# Altium footprint library TMPS 03.PcbLib: 1 footprints
Each footprint in its own frame and in the unit in brackets; x right, y up, seen from the top. Pads: shape width x height; smd on the part's side, far side on the other; paste and mask are expansions set on the pad; w line width, h text height; cw(c..) or ccw(c..) is an arc to the next point about the centre after c.
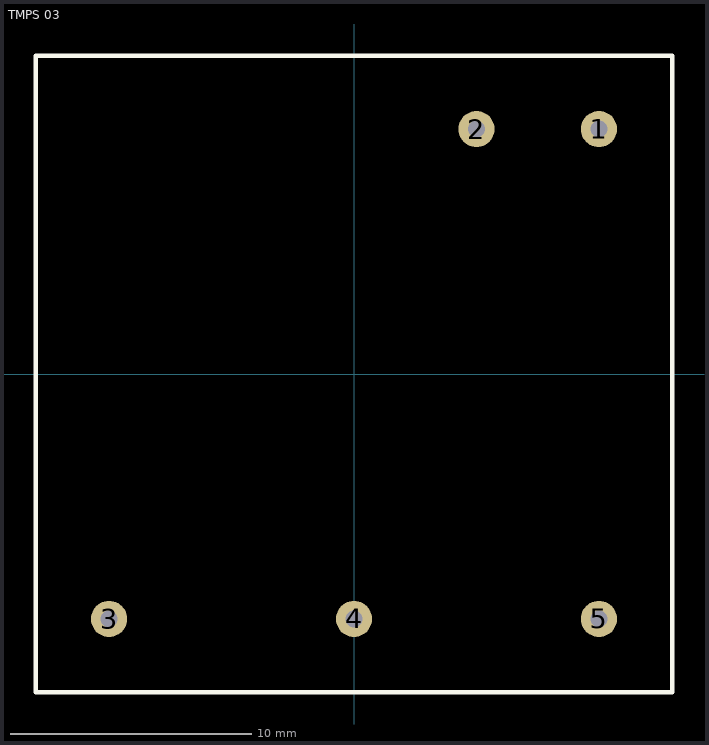
[diagram p0: the footprint, top view; thin cyan lines are the x and y axes]

## TMPS 03 [mm]
pads (5):
  round 1.5 hole 0.7: 1(10.16,10.16) 2(5.08,10.16) 3(-10.16,-10.16) 4(0,-10.16) 5(10.16,-10.16)
Top Overlay:
  lines w0.2: -13.2,-13.2 -13.2,13.2 13.2,13.2 13.2,-13.2 -13.2,-13.2
3D body "tmps03_3d_drawing.stp": height 16.6, standoff -5.08, extent -12.85,-12.85 12.85,12.85